# EAGLE library part XMOS-PCIE-XS1-128 (library jt-con-pcie)
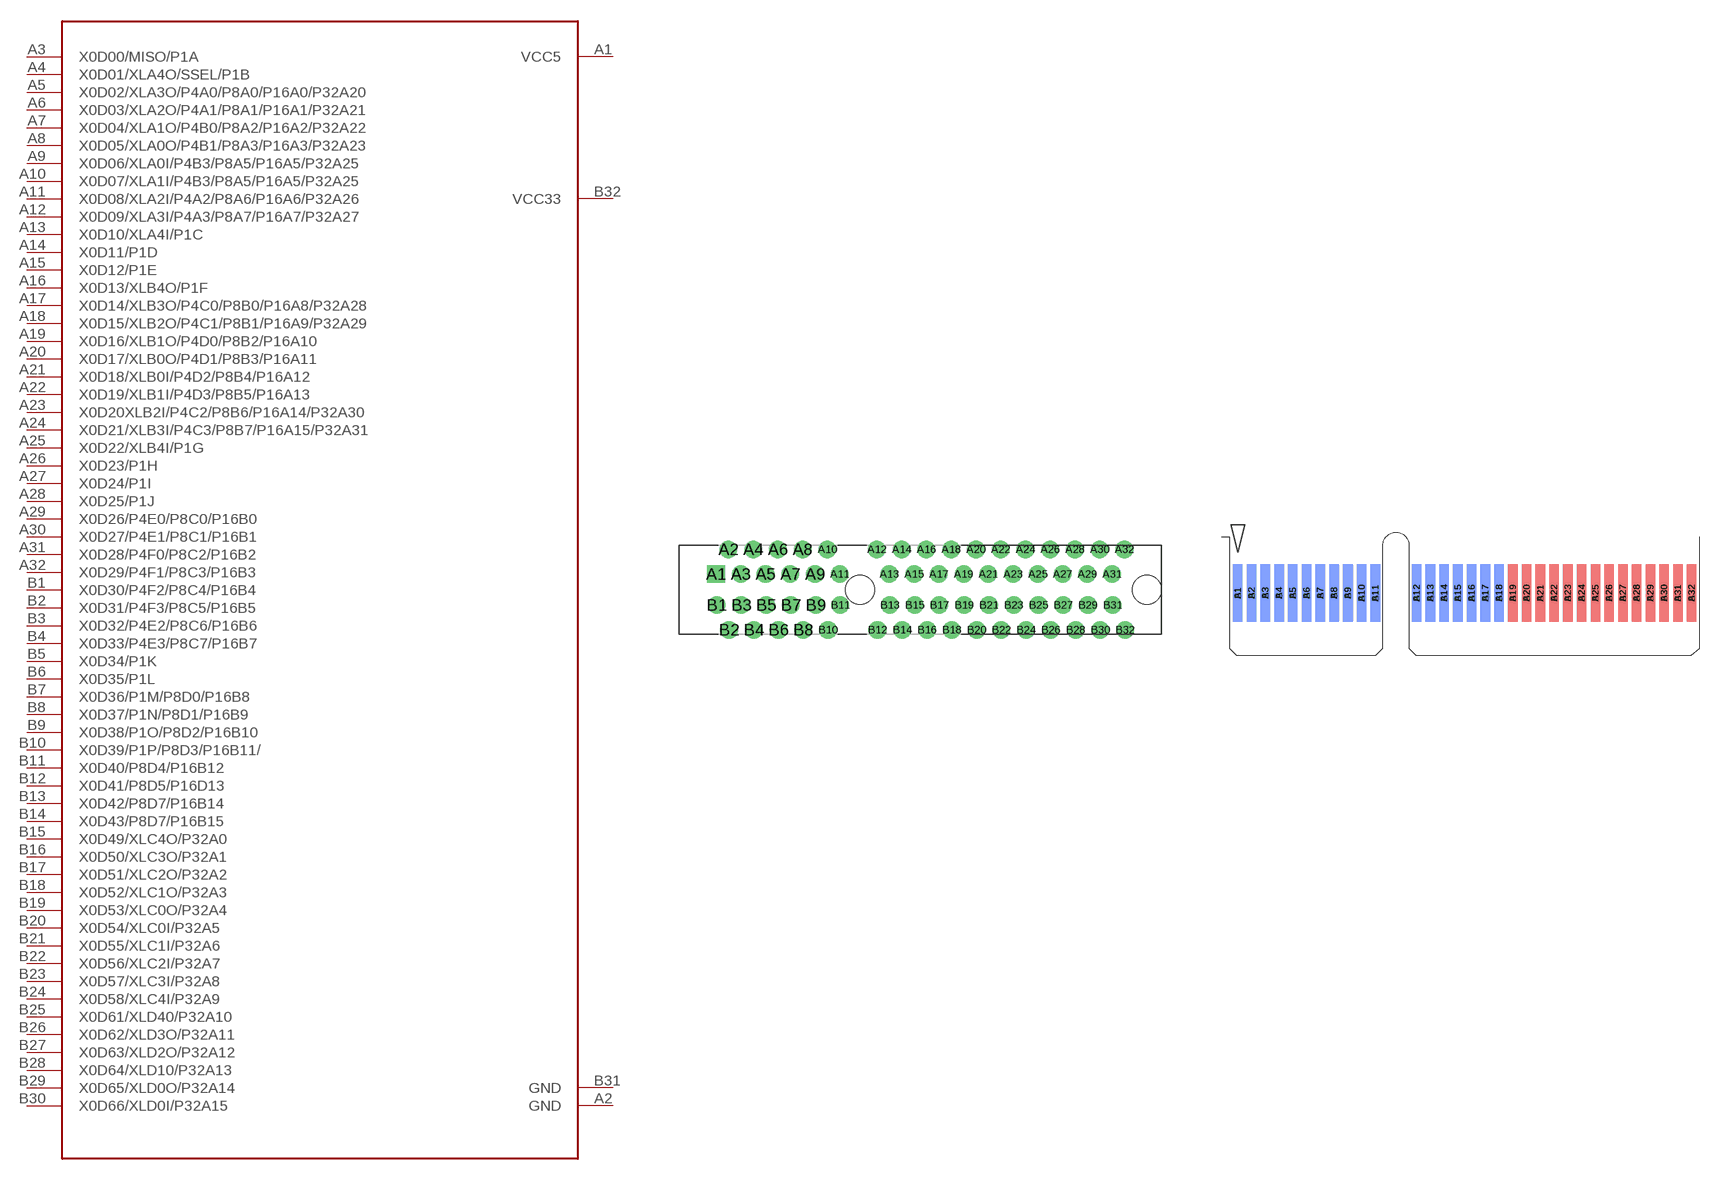
[diagram p5: symbol with the pads of PCIE-64-SKT; footprints PCIE-64-SKT, PCIE64-EDGE]

Designator prefix -

## XMOS-PCIE-XS1-128  [PCIE-64-SKT]
A1  VCC5
A2  GND
A3  X0D00/MISO/P1A
A4  X0D01/XLA4O/SSEL/P1B
A5  X0D02/XLA3O/P4A0/P8A0/P16A0/P32A20
A6  X0D03/XLA2O/P4A1/P8A1/P16A1/P32A21
A7  X0D04/XLA1O/P4B0/P8A2/P16A2/P32A22
A8  X0D05/XLA0O/P4B1/P8A3/P16A3/P32A23
A9  X0D06/XLA0I/P4B3/P8A5/P16A5/P32A25
A10  X0D07/XLA1I/P4B3/P8A5/P16A5/P32A25
A11  X0D08/XLA2I/P4A2/P8A6/P16A6/P32A26
A12  X0D09/XLA3I/P4A3/P8A7/P16A7/P32A27
A13  X0D10/XLA4I/P1C
A14  X0D11/P1D
A15  X0D12/P1E
A16  X0D13/XLB4O/P1F
A17  X0D14/XLB3O/P4C0/P8B0/P16A8/P32A28
A18  X0D15/XLB2O/P4C1/P8B1/P16A9/P32A29
A19  X0D16/XLB1O/P4D0/P8B2/P16A10
A20  X0D17/XLB0O/P4D1/P8B3/P16A11
A21  X0D18/XLB0I/P4D2/P8B4/P16A12
A22  X0D19/XLB1I/P4D3/P8B5/P16A13
A23  X0D20XLB2I/P4C2/P8B6/P16A14/P32A30
A24  X0D21/XLB3I/P4C3/P8B7/P16A15/P32A31
A25  X0D22/XLB4I/P1G
A26  X0D23/P1H
A27  X0D24/P1I
A28  X0D25/P1J
A29  X0D26/P4E0/P8C0/P16B0
A30  X0D27/P4E1/P8C1/P16B1
A31  X0D28/P4F0/P8C2/P16B2
A32  X0D29/P4F1/P8C3/P16B3
B1  X0D30/P4F2/P8C4/P16B4
B2  X0D31/P4F3/P8C5/P16B5
B3  X0D32/P4E2/P8C6/P16B6
B4  X0D33/P4E3/P8C7/P16B7
B5  X0D34/P1K
B6  X0D35/P1L
B7  X0D36/P1M/P8D0/P16B8
B8  X0D37/P1N/P8D1/P16B9
B9  X0D38/P1O/P8D2/P16B10
B10  X0D39/P1P/P8D3/P16B11/
B11  X0D40/P8D4/P16B12
B12  X0D41/P8D5/P16D13
B13  X0D42/P8D7/P16B14
B14  X0D43/P8D7/P16B15
B15  X0D49/XLC4O/P32A0
B16  X0D50/XLC3O/P32A1
B17  X0D51/XLC2O/P32A2
B18  X0D52/XLC1O/P32A3
B19  X0D53/XLC0O/P32A4
B20  X0D54/XLC0I/P32A5
B21  X0D55/XLC1I/P32A6
B22  X0D56/XLC2I/P32A7
B23  X0D57/XLC3I/P32A8
B24  X0D58/XLC4I/P32A9
B25  X0D61/XLD40/P32A10
B26  X0D62/XLD3O/P32A11
B27  X0D63/XLD2O/P32A12
B28  X0D64/XLD10/P32A13
B29  X0D65/XLD0O/P32A14
B30  X0D66/XLD0I/P32A15
B31  GND
B32  VCC33

## XMOS-PCIE-XS1-128EDGE  [PCIE64-EDGE]
Pads as for PCIE-64-SKT

## Footprint PCIE-64-SKT (pad centres in mm)
drill 0.7 pad 1.422 square: A1 -11.65,1.25
drill 0.7 pad 1.422: A2 -10.65,3.25; A3 -9.65,1.25; A4 -8.65,3.25; A5 -7.65,1.25; A6 -6.65,3.25; A7 -5.65,1.25; A8 -4.65,3.25; A9 -3.65,1.25; A10 -2.65,3.25; A11 -1.65,1.25; A12 1.35,3.25; A13 2.35,1.25; A14 3.35,3.25; A15 4.35,1.25; A16 5.35,3.25; A17 6.35,1.25; A18 7.35,3.25; A19 8.35,1.25; A20 9.35,3.25; A21 10.35,1.25; A22 11.35,3.25; A23 12.35,1.25; A24 13.35,3.25; A25 14.35,1.25; A26 15.35,3.25; A27 16.35,1.25; A28 17.35,3.25; A29 18.35,1.25; A30 19.35,3.25; A31 20.35,1.25; A32 21.35,3.25; B1 -11.6,-1.25; B2 -10.6,-3.25; B3 -9.6,-1.25; B4 -8.6,-3.25; B5 -7.6,-1.25; B6 -6.6,-3.25; B7 -5.6,-1.25; B8 -4.6,-3.25; B9 -3.6,-1.25; B10 -2.6,-3.25; B11 -1.6,-1.25; B12 1.4,-3.25; B13 2.4,-1.25; B14 3.4,-3.25; B15 4.4,-1.25; B16 5.4,-3.25; B17 6.4,-1.25; B18 7.4,-3.25; B19 8.4,-1.25; B20 9.4,-3.25; B21 10.4,-1.25; B22 11.4,-3.25; B23 12.4,-1.25; B24 13.4,-3.25; B25 14.4,-1.25; B26 15.4,-3.25; B27 16.4,-1.25; B28 17.4,-3.25; B29 18.4,-1.25; B30 19.4,-3.25; B31 20.4,-1.25; B32 21.4,-3.25
hole 2.35 at 0,0
hole 2.35 at 23.15,0

## Footprint PCIE64-EDGE (pad centres in mm)
smd 0.7 x 4.2 bottom: A1 -20.39,2.25; A2 -19.39,2.25; A3 -18.39,2.25; A4 -17.39,2.25; A5 -16.39,2.25; A6 -15.39,2.25; A7 -14.39,2.25; A8 -13.39,2.25; A9 -12.39,2.25; A10 -11.39,2.25; A11 -10.39,2.25; A12 -7.39,2.25; A13 -6.39,2.25; A14 -5.39,2.25; A15 -4.39,2.25; A16 -3.39,2.25; A17 -2.39,2.25; A18 -1.39,2.25; A19 -0.39,2.25; A20 0.61,2.25; A21 1.61,2.25; A22 2.61,2.25; A23 3.61,2.25; A24 4.61,2.25; A25 5.61,2.25; A26 6.61,2.25; A27 7.61,2.25; A28 8.61,2.25; A29 9.61,2.25; A30 10.61,2.25; A31 11.61,2.25; A32 12.61,2.25
smd 0.7 x 4.2: B1 -20.39,2.25; B2 -19.39,2.25; B3 -18.39,2.25; B4 -17.39,2.25; B5 -16.39,2.25; B6 -15.39,2.25; B7 -14.39,2.25; B8 -13.39,2.25; B9 -12.39,2.25; B10 -11.39,2.25; B11 -10.39,2.25; B12 -7.39,2.25; B13 -6.39,2.25; B14 -5.39,2.25; B15 -4.39,2.25; B16 -3.39,2.25; B17 -2.39,2.25; B18 -1.39,2.25; B19 -0.39,2.25; B20 0.61,2.25; B21 1.61,2.25; B22 2.61,2.25; B23 3.61,2.25; B24 4.61,2.25; B25 5.61,2.25; B26 6.61,2.25; B27 7.61,2.25; B28 8.61,2.25; B29 9.61,2.25; B30 10.61,2.25; B31 11.61,2.25; B32 12.61,2.25